# Altium footprint library Resistor - Potentiometer.PcbLib: 5 footprints
Each footprint in its own frame and in the unit in brackets; x right, y up, seen from the top. Pads: shape width x height; smd on the part's side, far side on the other; paste and mask are expansions set on the pad; w line width, h text height; cw(c..) or ccw(c..) is an arc to the next point about the centre after c.
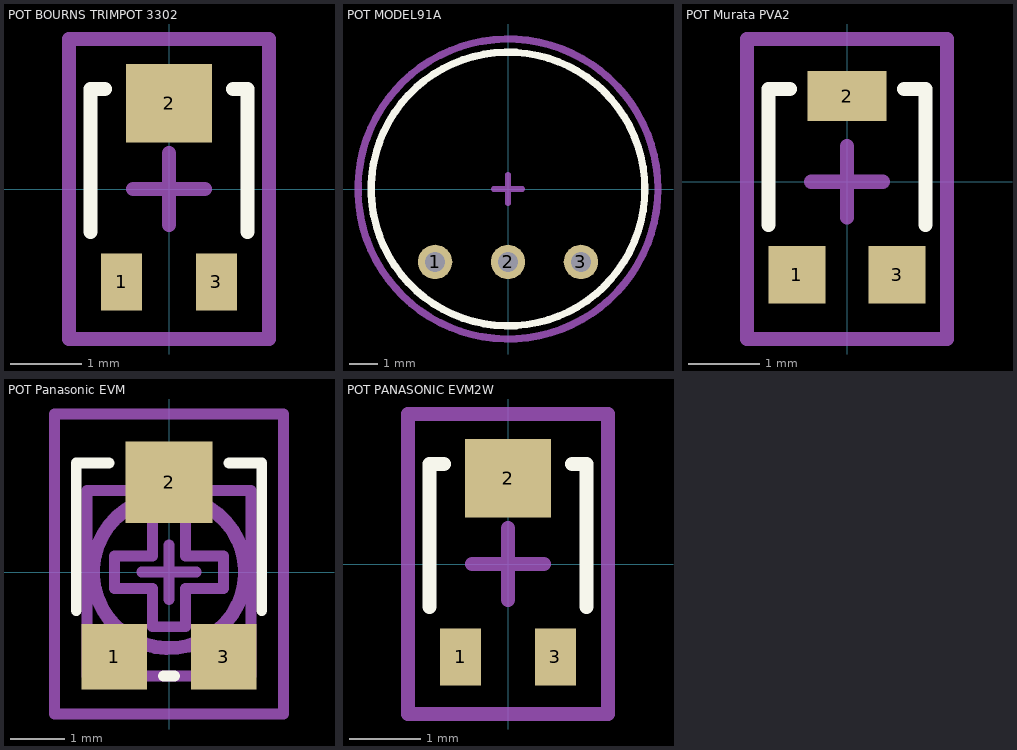
[diagram p0: the footprints below, top view; thin cyan lines are the x and y axes]

## POT BOURNS TRIMPOT 3302 [mm] "Bourns Trimpot 3302 - Open Frame 2.75mm x 2.20mm x 1.05mm"
height 1.05
pads (3):
  rect 0.575x0.8 smd: 1(-0.663,-1.3) 3(0.663,-1.3)
  rect 1.2x1.1 smd: 2(0,1.2)
Top Overlay:
  lines w0.2: -1.1,-0.6 -1.1,1.4 -0.9,1.4 ; 0.9,1.4 1.1,1.4 1.1,-0.6
Mechanical 15:
  lines w0.2: -0.5,0 0.5,0 ; 0,-0.5 0,0.5 ; -1.4,-2.1 -1.4,2.1 1.4,2.1 1.4,-2.1 -1.4,-2.1
3D body "Panasonic EVM2W.STEP": height 0.81, standoff 0, extent -1.1,-1.3 1.1,1.45

## POT MODEL91A [mm]
height 5.08
pads (3):
  round 1.2 hole 0.7: 1(-2.54,-2.54) 2(0,-2.54) 3(2.54,-2.54)
Top Overlay:
  circle w0.254: c0,0 r4.763
Mechanical 15:
  circle w0.254: c0,0 r5.22
  lines w0.2: -0.5,0 0.5,0 ; 0,-0.5 0,0.5
3D body "91A-1 mod.STEP": height 4.89, standoff -1.79, extent -4.681,-4.877 4.681,4.699

## POT Murata PVA2 [mm] "Murata PVA2 2.75mm x 2.20mm x 0.80mm"
height 0.8
pads (3):
  rect 0.8x0.8 smd: 1(-0.7,-1.3) 3(0.7,-1.3)
  rect 1.1x0.7 smd: 2(0,1.2)
Top Overlay:
  lines w0.2: -1.1,-0.6 -1.1,1.3 -0.8,1.3 ; 0.8,1.3 1.1,1.3 1.1,-0.6
Mechanical 15:
  lines w0.2: -0.5,0 0.5,0 ; 0,-0.5 0,0.5 ; -1.4,-2.2 -1.4,2 1.4,2 1.4,-2.2 -1.4,-2.2
3D body "Murata PVA2.STEP": height 0.8, standoff 0, extent -1.1,-1.45 1.1,1.3

## POT Panasonic EVM [mm] "Panasonic EVM3Y 3.45mm x 3.10mm x 1.55mm"
height 1.55
pads (3):
  rect 1.2x1.2 smd: 1(-1,-1.55) 3(1,-1.55)
  rect 1.6x1.5 smd: 2(0,1.65)
Top Overlay:
  lines w0.2: -1.7,-0.7 -1.7,2 -1.1,2 ; -0.1,-1.9 0.1,-1.9 ; 1.1,2 1.7,2 1.7,-0.7
Mechanical 1:
  circle w0.254: c0,0 r1.393
  lines w0.2: -1.5,-1.9 -1.5,1.5 1.5,1.5 1.5,-1.9 -1.5,-1.9 ; -1,-0.3 -0.3,-0.3 -0.3,-1 0.3,-1 0.3,-0.3 1,-0.3 1,0.3 0.3,0.3 0.3,1 -0.3,1 -0.3,0.3 -1,0.3 -1,-0.3
Mechanical 15:
  lines w0.2: -0.5,0 0.5,0 ; 0,-0.5 0,0.5 ; -2.1,-2.6 2.1,-2.6 2.1,2.9 -2.1,2.9 -2.1,-2.6
3D body "Panasonic EVM.STEP": height 1.55, standoff 0, extent -1.55,-1.9 1.55,1.85

## POT PANASONIC EVM2W [mm] "Panasonic EVM2W 2.75mm x 2.20mm x 1.05mm"
height 1.05
pads (3):
  rect 0.575x0.8 smd: 1(-0.663,-1.3) 3(0.663,-1.3)
  rect 1.2x1.1 smd: 2(0,1.2)
Top Overlay:
  lines w0.2: -1.1,-0.6 -1.1,1.4 -0.9,1.4 ; 0.9,1.4 1.1,1.4 1.1,-0.6
Mechanical 15:
  lines w0.2: -0.5,0 0.5,0 ; 0,-0.5 0,0.5 ; -1.4,-2.1 1.4,-2.1 1.4,2.1 -1.4,2.1 -1.4,-2.1
3D body "Panasonic EVM2W.STEP": height 0.81, standoff 0, extent -1.1,-1.3 1.1,1.45